# EAGLE library part MAX3241E (library S2U_lib)
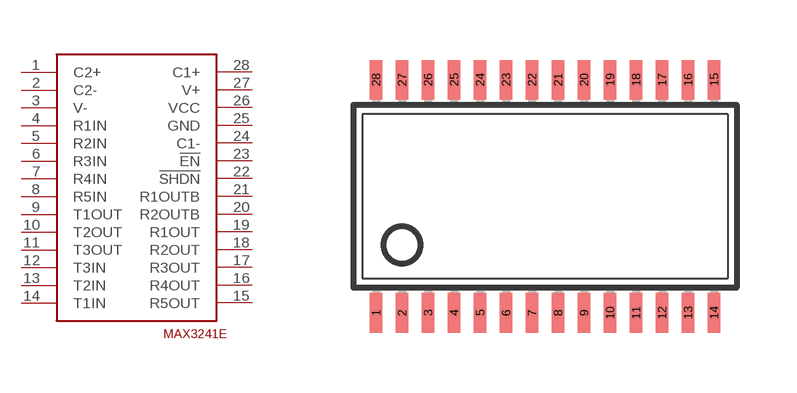
[diagram p1: symbol with the pads of TSSOP28; footprint TSSOP28]

Designator prefix -

## MAX3241E  [TSSOP28]
1  C2+
2  C2-
3  V-
4  R1IN
5  R2IN
6  R3IN
7  R4IN
8  R5IN
9  T1OUT
10  T2OUT
11  T3OUT
12  T3IN
13  T2IN
14  T1IN
15  R5OUT
16  R4OUT
17  R3OUT
18  R2OUT
19  R1OUT
20  R2OUTB
21  R1OUTB
22  !SHDN
23  !EN
24  C1-
25  GND
26  VCC
27  V+
28  C1+

## Footprint TSSOP28 (pad centres in mm)
Thin Shrink Small Outline Plastic 28 MAX3223-MAX3243.pdf
smd 0.305 x 0.991: 1 -4.225,-2.918; 2 -3.575,-2.918; 3 -2.925,-2.918; 4 -2.275,-2.918; 5 -1.625,-2.918; 6 -0.975,-2.918; 7 -0.325,-2.918; 8 0.325,-2.918; 9 0.975,-2.918; 10 1.625,-2.918; 11 2.275,-2.918; 12 2.925,-2.918; 13 3.575,-2.918; 14 4.225,-2.918; 15 4.225,2.918; 16 3.575,2.918; 17 2.925,2.918; 18 2.275,2.918; 19 1.625,2.918; 20 0.975,2.918; 21 0.325,2.918; 22 -0.325,2.918; 23 -0.975,2.918; 24 -1.625,2.918; 25 -2.275,2.918; 26 -2.925,2.918; 27 -3.575,2.918; 28 -4.225,2.918